# Altium footprint library LT3470.PcbLib: 1 footprints
Each footprint in its own frame and in the unit in brackets; x right, y up, seen from the top. Pads: shape width x height; smd on the part's side, far side on the other; paste and mask are expansions set on the pad; w line width, h text height; cw(c..) or ccw(c..) is an arc to the next point about the centre after c.
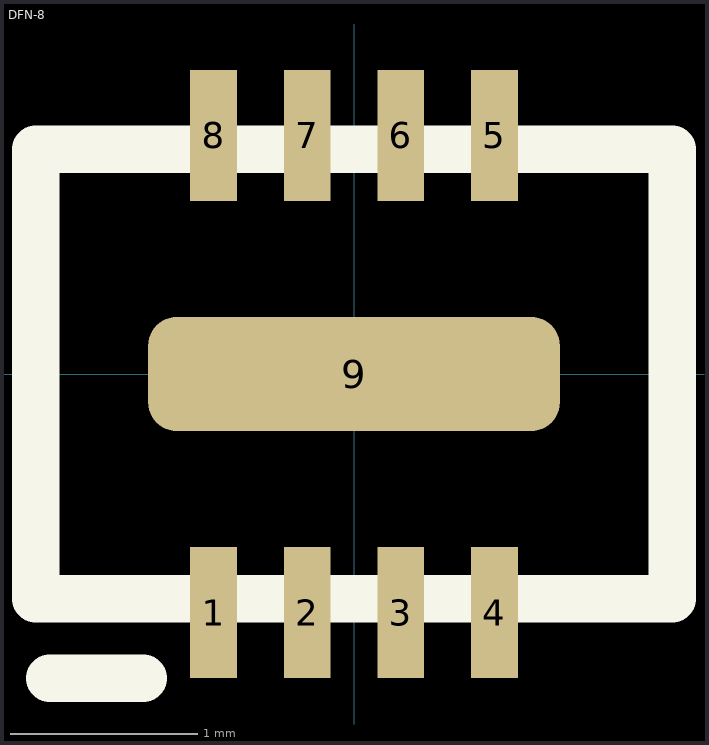
[diagram p0: the footprint, top view; thin cyan lines are the x and y axes]

## DFN-8 [mm]
height 0.8
pads (9):
  rect 0.25x0.7 smd: 1(-0.75,-1.275) 2(-0.25,-1.275) 3(0.25,-1.275) 4(0.75,-1.275) 5(0.75,1.275) 6(0.25,1.275) 7(-0.25,1.275) 8(-0.75,1.275)
  rrect50% 2.2x0.61 smd: 9(0,0)
Top Overlay:
  lines w0.254: -1.625,-1.625 -1.125,-1.625 ; -1.7,-1.2 -1.7,1.2 1.7,1.2 1.7,-1.2 -1.7,-1.2